# EAGLE library part 1554ТЛ2 (library std-logic-1554series)
АЕЯР.431200.182-04 ТУ 1554ТЛ2 - Шесть триггеров Шмитта-инверторов. Изготовитель: ОАО "ИНТЕГРАЛ", г. Минск, р. Беларусь. Технические условия (ТБМ): АЕЯР.431200.182-04 ТУ Технические условия (не ТБМ): АЕЯР.431200.093-01 ТУ
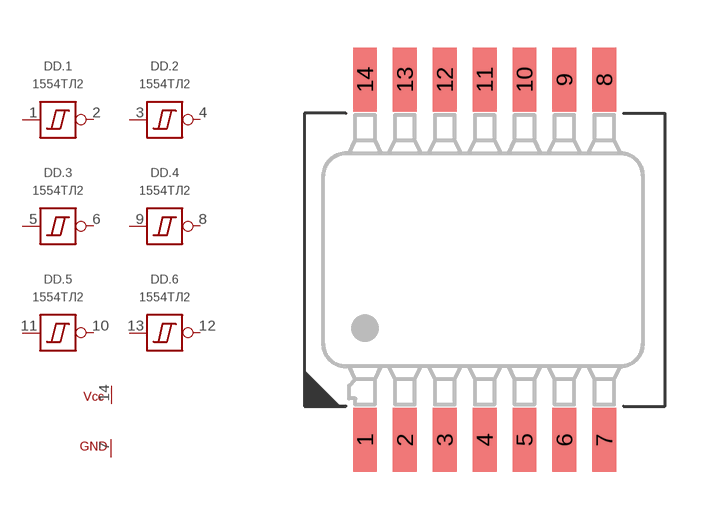
[diagram p20: symbol with the pads of 401.14-5; footprint 401.14-5]

Designator prefix DD; gates .3=1554ТЛ2 .1=1554ТЛ2 .5=1554ТЛ2 .4=1554ТЛ2 .2=1554ТЛ2 .6=1554ТЛ2 G$7=1554_PWR2

## 1554ТЛ2ТБМ  [401.14-5]
1  .1:A  in
2  .1:Y  out
3  .2:A  in
4  .2:Y  out
5  .3:A  in
6  .3:Y  out
7  G$7:GND  pwr
8  .4:Y  out
9  .4:A  in
10  .5:Y  out
11  .5:A  in
12  .6:Y  out
13  .6:A  in
14  G$7:VCC  pwr

## Footprint 401.14-5 (pad centres in mm)
smd 0.75 x 2: 1 -3.7,-5.65; 2 -2.45,-5.65; 3 -1.2,-5.65; 4 0.05,-5.65; 5 1.3,-5.65; 6 2.55,-5.65; 7 3.8,-5.65; 8 3.8,5.65; 9 2.55,5.65; 10 1.3,5.65; 11 0.05,5.65; 12 -1.2,5.65; 13 -2.45,5.65; 14 -3.7,5.65